# Altium footprint library Monolithic_Power_Systems.PcbLib: 17 footprints (part 1 of 2)
Each footprint in its own frame and in the unit in brackets; x right, y up, seen from the top. Pads: shape width x height; smd on the part's side, far side on the other; paste and mask are expansions set on the pad; w line width, h text height; cw(c..) or ccw(c..) is an arc to the next point about the centre after c.
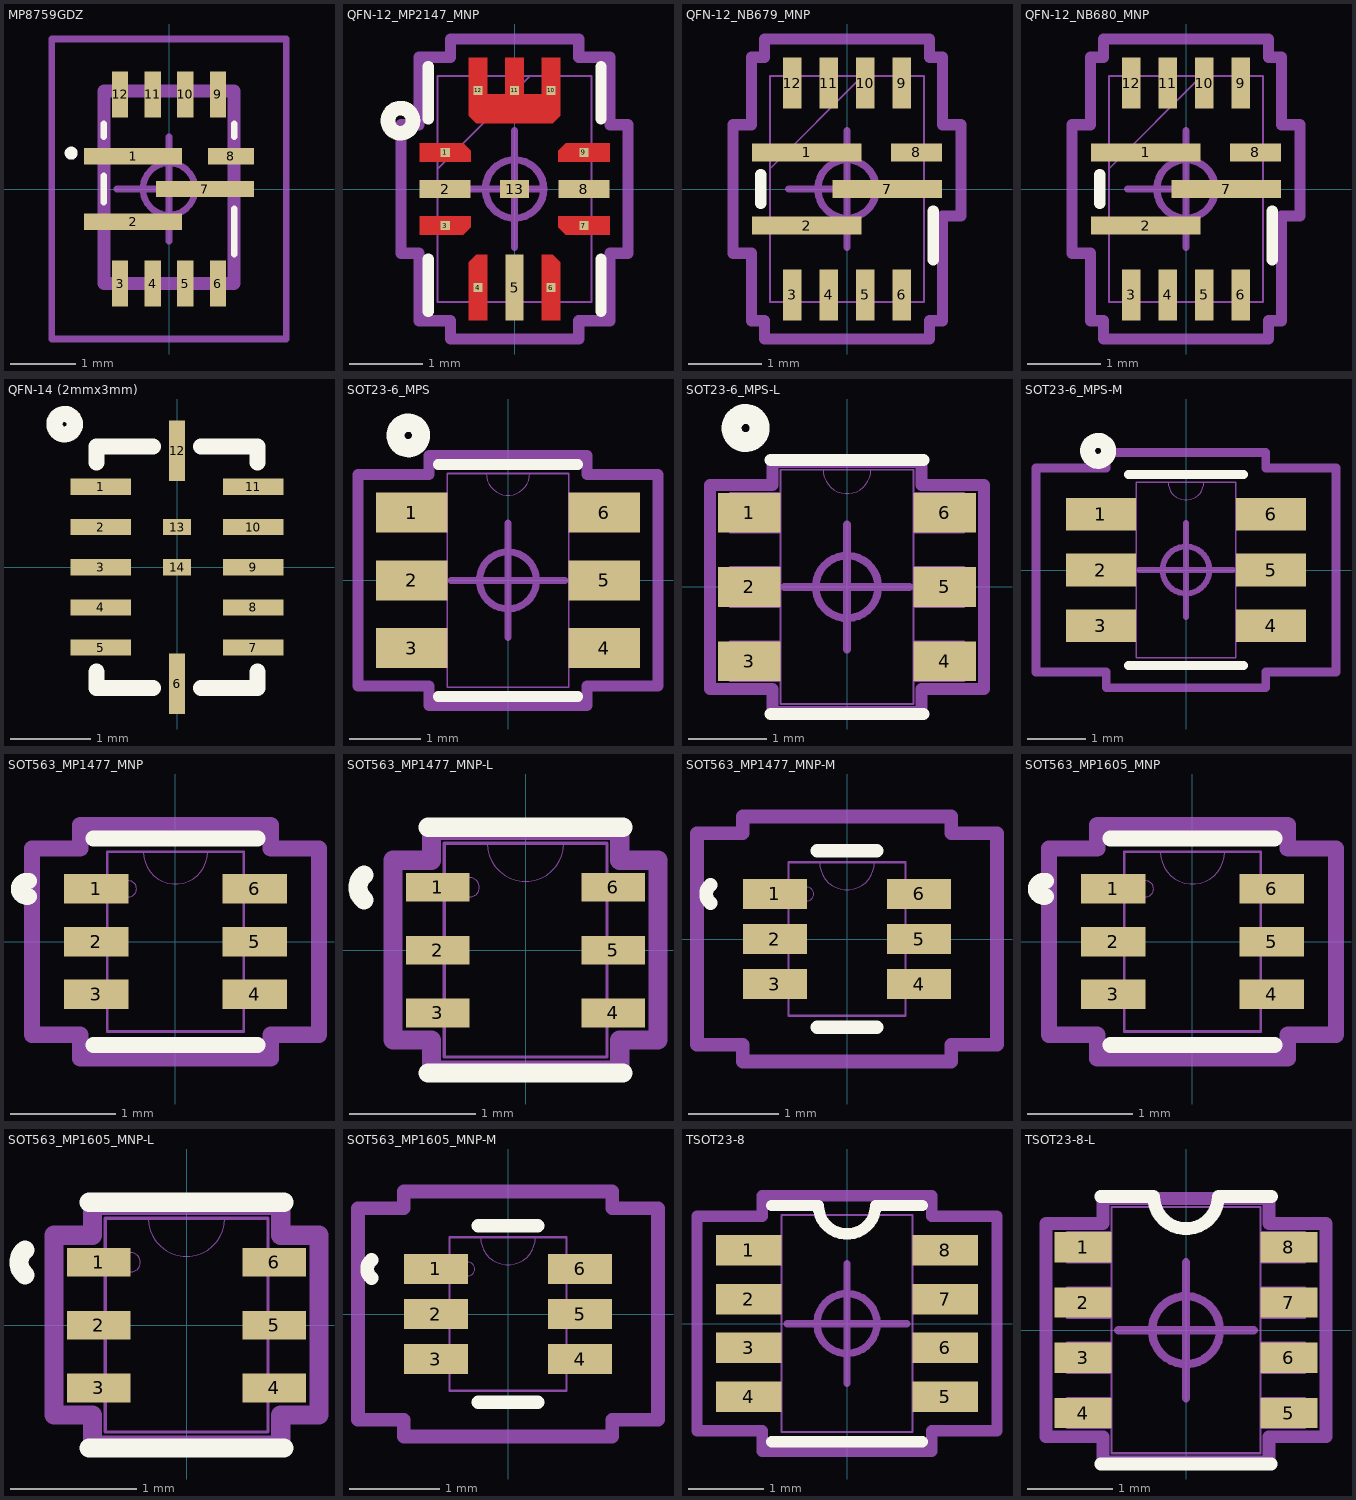
[diagram p0: the footprints below, top view; thin cyan lines are the x and y axes]

## MP8759GDZ [mm]
pads (12):
  rect 1.5x0.25 smd: 1(-0.55,0.5) 2(-0.55,-0.5) 7(0.55,0)
  rect 0.25x0.7 smd: 3(-0.75,-1.45) 4(-0.25,-1.45) 5(0.25,-1.45) 6(0.75,-1.45) 9(0.75,1.45) 10(0.25,1.45) 11(-0.25,1.45) 12(-0.75,1.45)
  rect 0.7x0.25 smd: 8(0.95,0.5)
Top Overlay:
  lines w0.1: -1,-0.2 -1,0.2 ; -1,0.8 -1,1 ; 1,-1 1,-0.3 ; 1,0.8 1,1 ; -1.5,0.5 cw(c-1.5,0.55) -1.5,0.6 cw(c-1.5,0.55) -1.5,0.5
Mechanical 13:
  lines w0.2: -1,-1.45 1,-1.45 1,1.5 -1,1.5 -1,-1.45
Mechanical 15:
  circle w0.1: c0,0 r0.4
  lines w0.1: -0.8,0 -0.4,0 0,0 ; 0,-0.8 0,-0.4 0,0 ; 0,0.8 0,0.4 0,0 ; 0.4,0 0,0 ; -1.8,-2.3 1.8,-2.3 1.8,2.3 -1.8,2.3 -1.8,-2.3
3D body "MP8756 (QFN-12, 2x3).step": height 0.87, standoff -0.03, extent -1,-1.5 1,1.5

## QFN-12_MP2147_MNP [mm]
pads (13):
  rect 0.127x0.127 smd paste-0.064 mask-0.064: 1(-0.95,0.5) 3(-0.95,-0.5) 4(-0.5,-1.35) 6(0.5,-1.35) 7(0.95,-0.5) 9(0.95,0.5) 10(0.5,1.35) 11(0,1.35) 12(-0.5,1.35)
  rect 0.7x0.25 smd paste+0 mask+0: 2(-0.95,0) 8(0.95,0)
  rect 0.25x0.9 smd paste+0 mask+0: 5(0,-1.35)
  rect 0.4x0.25 smd paste+0 mask+0: 13(0,0)
Top Layer:
  region: -0.625,1 -0.625,1.8 -0.375,1.8 -0.375,1.3 -0.125,1.3 -0.125,1.8 0.125,1.8 0.125,1.3 0.375,1.3 0.375,1.8 0.625,1.8 0.625,1 0.525,0.9 -0.525,0.9
  region: 0.7,-0.625 1.3,-0.625 1.3,-0.375 0.6,-0.375 0.6,-0.525
  region: -0.7,0.625 -1.3,0.625 -1.3,0.375 -0.6,0.375 -0.6,0.525
  region: 0.625,-1 0.625,-1.8 0.375,-1.8 0.375,-0.9 0.525,-0.9
  region: -0.625,-1 -0.625,-1.8 -0.375,-1.8 -0.375,-0.9 -0.525,-0.9
  region: -0.7,-0.625 -1.3,-0.625 -1.3,-0.375 -0.6,-0.375 -0.6,-0.525
  region: 0.7,0.625 1.3,0.625 1.3,0.375 0.6,0.375 0.6,0.525
Top Overlay:
  circle w0.2: c-1.562,0.936 r0.172
  lines w0.152: -1.181,-1.676 -1.181,-0.958 ; -1.181,0.958 -1.181,1.676 ; 1.181,-1.676 1.181,-0.958 ; 1.181,0.958 1.181,1.676
Top Paste:
  region: -0.625,-1 -0.625,-1.8 -0.375,-1.8 -0.375,-0.9 -0.525,-0.9
  region: 0.625,-1 0.625,-1.8 0.375,-1.8 0.375,-0.9 0.525,-0.9
  region: 0.7,-0.625 1.3,-0.625 1.3,-0.375 0.6,-0.375 0.6,-0.525
  region: -0.7,-0.625 -1.3,-0.625 -1.3,-0.375 -0.6,-0.375 -0.6,-0.525
  region: -0.7,0.625 -1.3,0.625 -1.3,0.375 -0.6,0.375 -0.6,0.525
  region: 0.7,0.625 1.3,0.625 1.3,0.375 0.6,0.375 0.6,0.525
  region: -0.625,1 -0.625,1.8 -0.375,1.8 -0.375,1.3 -0.125,1.3 -0.125,1.8 0.125,1.8 0.125,1.3 0.375,1.3 0.375,1.8 0.625,1.8 0.625,1 0.525,0.9 -0.525,0.9
Top Solder:
  region: -0.625,-1 -0.625,-1.8 -0.375,-1.8 -0.375,-0.9 -0.525,-0.9
  region: 0.625,-1 0.625,-1.8 0.375,-1.8 0.375,-0.9 0.525,-0.9
  region: 0.7,-0.625 1.3,-0.625 1.3,-0.375 0.6,-0.375 0.6,-0.525
  region: -0.7,-0.625 -1.3,-0.625 -1.3,-0.375 -0.6,-0.375 -0.6,-0.525
  region: -0.7,0.625 -1.3,0.625 -1.3,0.375 -0.6,0.375 -0.6,0.525
  region: 0.7,0.625 1.3,0.625 1.3,0.375 0.6,0.375 0.6,0.525
  region: -0.625,1 -0.625,1.8 -0.375,1.8 -0.375,1.3 -0.125,1.3 -0.125,1.8 0.125,1.8 0.125,1.3 0.375,1.3 0.375,1.8 0.625,1.8 0.625,1 0.525,0.9 -0.525,0.9
Mechanical 13:
  lines w0.025: -1.054,0.279 0.216,1.549 ; -1.054,-1.549 -1.054,1.549 1.054,1.549 1.054,-1.549 -1.054,-1.549
Mechanical 15:
  circle w0.1: c0,0 r0.4
  lines w0.1: -0.8,0 -0.4,0 0,0 ; 0,-0.8 0,-0.4 0,0 ; 0,0.8 0,0.4 0,0 ; 0.4,0 0,0
  lines w0.152: -1.554,-0.879 -1.308,-0.879 -1.308,-1.803 -0.879,-1.803 -0.879,-2.054 0.879,-2.054 0.879,-1.803 1.308,-1.803 1.308,-0.879 1.554,-0.879 1.554,0.879 1.308,0.879 1.308,1.803 0.879,1.803 0.879,2.054 -0.879,2.054 -0.879,1.803 -1.308,1.803 -1.308,0.879 -1.554,0.879 -1.554,-0.879

## QFN-12_NB679_MNP [mm]
pads (12):
  rect 1.5x0.25 smd paste+0 mask+0: 1(-0.55,0.5) 2(-0.55,-0.5) 7(0.55,0)
  rect 0.25x0.7 smd paste+0 mask+0: 3(-0.75,-1.45) 4(-0.25,-1.45) 5(0.25,-1.45) 6(0.75,-1.45) 9(0.75,1.45) 10(0.25,1.45) 11(-0.25,1.45) 12(-0.75,1.45)
  rect 0.7x0.25 smd paste+0 mask+0: 8(0.95,0.5)
Top Overlay:
  lines w0.152: -1.181,-0.197 -1.181,0.197 ; 1.181,-0.969 1.181,-0.303
Mechanical 13:
  lines w0.025: -1.054,0.279 0.216,1.549 ; -1.054,-1.549 1.054,-1.549 1.054,1.549 -1.054,1.549 -1.054,-1.549
Mechanical 15:
  circle w0.1: c0,0 r0.4
  lines w0.1: -0.8,0 -0.4,0 0,0 ; 0,-0.8 0,-0.4 0,0 ; 0,0.8 0,0.4 0,0 ; 0.4,0 0,0
  lines w0.152: -1.562,-0.879 -1.562,0.879 -1.308,0.879 -1.308,1.803 -1.129,1.803 -1.129,2.054 1.129,2.054 1.129,1.803 1.308,1.803 1.308,0.879 1.562,0.879 1.562,-0.371 1.308,-0.371 1.308,-1.803 1.129,-1.803 1.129,-2.054 -1.129,-2.054 -1.129,-1.803 -1.308,-1.803 -1.308,-0.879 -1.562,-0.879
3D body "MP8756 (QFN-12, 2x3).step": height 0.87, standoff -0.03, extent -1,-1.5 1,1.5

## QFN-12_NB680_MNP [mm]
pads (12):
  rect 1.5x0.25 smd paste+0 mask+0: 1(-0.55,0.5) 2(-0.55,-0.5) 7(0.55,0)
  rect 0.25x0.7 smd paste+0 mask+0: 3(-0.75,-1.45) 4(-0.25,-1.45) 5(0.25,-1.45) 6(0.75,-1.45) 9(0.75,1.45) 10(0.25,1.45) 11(-0.25,1.45) 12(-0.75,1.45)
  rect 0.7x0.25 smd paste+0 mask+0: 8(0.95,0.5)
Top Overlay:
  lines w0.152: -1.181,-0.197 -1.181,0.197 ; 1.181,-0.969 1.181,-0.303
Mechanical 13:
  lines w0.025: -1.054,0.279 0.216,1.549 ; -1.054,-1.549 1.054,-1.549 1.054,1.549 -1.054,1.549 -1.054,-1.549
Mechanical 15:
  circle w0.1: c0,0 r0.4
  lines w0.1: -0.8,0 -0.4,0 0,0 ; 0,-0.8 0,-0.4 0,0 ; 0,0.8 0,0.4 0,0 ; 0.4,0 0,0
  lines w0.152: -1.562,-0.879 -1.562,0.879 -1.308,0.879 -1.308,1.803 -1.129,1.803 -1.129,2.054 1.129,2.054 1.129,1.803 1.308,1.803 1.308,0.879 1.562,0.879 1.562,-0.371 1.308,-0.371 1.308,-1.803 1.129,-1.803 1.129,-2.054 -1.129,-2.054 -1.129,-1.803 -1.308,-1.803 -1.308,-0.879 -1.562,-0.879
3D body "MP8756 (QFN-12, 2x3).step": height 0.87, standoff -0.03, extent -1,-1.5 1,1.5

## QFN-14 (2mmx3mm) [mm]
pads (14):
  rect 0.75x0.2 smd: 1(-0.95,1) 2(-0.95,0.5) 3(-0.95,0) 4(-0.95,-0.5) 5(-0.95,-1) 7(0.95,-1) 8(0.95,-0.5) 9(0.95,0) 10(0.95,0.5) 11(0.95,1)
  rect 0.2x0.75 smd: 6(0,-1.45) 12(0,1.45)
  rect 0.35x0.2 smd: 13(0,0.5) 14(0,0)
Top Overlay:
  circle w0.2: c-1.397,1.778 r0.127
  lines w0.2: -1,-1.3 -1,-1.5 -0.3,-1.5 ; -1,1.3 -1,1.5 -0.3,1.5 ; 0.3,-1.5 1,-1.5 1,-1.3 ; 0.3,1.5 1,1.5 1,1.3

## SOT23-6_MPS [mm]
pads (6):
  rect 0.998x0.558 smd: 1(-1.35,0.95) 2(-1.35,0) 3(-1.35,-0.95) 4(1.35,-0.95) 5(1.35,0) 6(1.35,0.95)
Top Overlay:
  circle w0.254: c-1.397,2.032 r0.18
  lines w0.152: -0.978,-1.626 0.978,-1.626 ; -0.978,1.626 0.978,1.626
Mechanical 13:
  lines w0: -0.305,1.499 ccw(c0,1.499) 0.305,1.499
  lines w0.025: -1.499,-1.204 -1.499,-0.696 -0.851,-0.696 -0.851,-1.204 -1.499,-1.204 ; -1.499,-0.254 -1.499,0.254 -0.851,0.254 -0.851,-0.254 -1.499,-0.254 ; -1.499,0.696 -1.499,1.204 -0.851,1.204 -0.851,0.696 -1.499,0.696 ; -0.851,-1.499 0.851,-1.499 0.851,1.499 -0.851,1.499 -0.851,-1.499 ; 0.851,-1.204 0.851,-0.696 1.499,-0.696 1.499,-1.204 0.851,-1.204 ; 0.851,-0.254 0.851,0.254 1.499,0.254 1.499,-0.254 0.851,-0.254 ; 0.851,0.696 0.851,1.204 1.499,1.204 1.499,0.696 0.851,0.696
Mechanical 15:
  circle w0.1: c0,0 r0.4
  lines w0.1: -0.8,0 -0.4,0 0,0 ; 0,-0.8 0,-0.4 0,0 ; 0,0.8 0,0.4 0,0 ; 0.8,0 0.4,0 0,0
  lines w0.152: -2.103,-1.483 -2.103,1.483 -1.105,1.483 -1.105,1.753 1.105,1.753 1.105,1.483 2.103,1.483 2.103,-1.483 1.105,-1.483 1.105,-1.753 -1.105,-1.753 -1.105,-1.483 -2.103,-1.483
3D body "SOT23-6_MPS.step": height 1.45, standoff 0, extent -1.499,-1.499 1.499,1.499

## SOT23-6_MPS-L [mil]
pads (6):
  rect 31.41x20 smd: 1(-49.2,37.4) 2(-49.2,0) 3(-49.2,-37.4) 4(49.2,-37.4) 5(49.2,0) 6(49.2,37.4)
Top Overlay:
  circle w10: c-51.06,80 r7.07
  lines w6: -38.5,-64 38.5,-64 ; -38.5,64 38.5,64
Mechanical 13:
  lines w0: -12,59 ccw(c0,59) 12,59
  lines w1: -59,-47.4 -33.5,-47.4 -33.5,-27.4 -59,-27.4 -59,-47.4 ; -59,-10 -33.5,-10 -33.5,10 -59,10 -59,-10 ; -59,27.4 -33.5,27.4 -33.5,47.4 -59,47.4 -59,27.4 ; -33.5,-59 -33.5,59 33.5,59 33.5,-59 -33.5,-59 ; 33.5,-47.4 59,-47.4 59,-27.4 33.5,-27.4 33.5,-47.4 ; 33.5,-10 59,-10 59,10 33.5,10 33.5,-10 ; 33.5,27.4 59,27.4 59,47.4 33.5,47.4 33.5,27.4
Mechanical 15:
  circle w3.94: c0,0 r15.75
  lines w3.94: -31.5,0 -15.75,0 0,0 ; 0,-31.5 0,-15.75 0,0 ; 0,31.5 0,15.75 0,0 ; 31.5,0 15.75,0 0,0
  lines w6: -68.91,-51.4 -37.5,-51.4 -37.5,-63 37.5,-63 37.5,-51.4 68.91,-51.4 68.91,51.4 37.5,51.4 37.5,63 -37.5,63 -37.5,51.4 -68.91,51.4 -68.91,-51.4
3D body "SOT23-6_MPS.step": height 57.09, standoff 0, extent -59.01,-59 59.02,59.02

## SOT23-6_MPS-M [mm]
pads (6):
  rect 1.198x0.558 smd: 1(-1.45,0.95) 2(-1.45,0) 3(-1.45,-0.95) 4(1.45,-0.95) 5(1.45,0) 6(1.45,0.95)
Top Overlay:
  circle w0.254: c-1.497,2.032 r0.18
  lines w0.152: -0.978,-1.626 0.978,-1.626 ; -0.978,1.626 0.978,1.626
Mechanical 13:
  lines w0: -0.305,1.499 ccw(c0,1.499) 0.305,1.499
  lines w0.025: -1.499,-1.204 -0.851,-1.204 -0.851,-0.696 -1.499,-0.696 -1.499,-1.204 ; -1.499,-0.254 -0.851,-0.254 -0.851,0.254 -1.499,0.254 -1.499,-0.254 ; -1.499,0.696 -0.851,0.696 -0.851,1.204 -1.499,1.204 -1.499,0.696 ; -0.851,-1.499 -0.851,1.499 0.851,1.499 0.851,-1.499 -0.851,-1.499 ; 0.851,-1.204 1.499,-1.204 1.499,-0.696 0.851,-0.696 0.851,-1.204 ; 0.851,-0.254 1.499,-0.254 1.499,0.254 0.851,0.254 0.851,-0.254 ; 0.851,0.696 1.499,0.696 1.499,1.204 0.851,1.204 0.851,0.696
Mechanical 15:
  circle w0.1: c0,0 r0.4
  lines w0.1: -0.8,0 -0.4,0 0,0 ; 0,-0.8 0,-0.4 0,0 ; 0,0.8 0,0.4 0,0 ; 0.8,0 0.4,0 0,0
  lines w0.152: -2.557,-1.737 -1.359,-1.737 -1.359,-2.007 1.359,-2.007 1.359,-1.737 2.557,-1.737 2.557,1.737 1.359,1.737 1.359,2.007 -1.359,2.007 -1.359,1.737 -2.557,1.737 -2.557,-1.737
3D body "SOT23-6_MPS.step": height 1.45, standoff 0, extent -1.499,-1.499 1.499,1.499

## SOT563_MP1477_MNP [mil]
pads (6):
  rect 24x11 smd: 1(-29.5,19.68) 2(-29.5,0) 3(-29.5,-19.68) 4(29.5,-19.68) 5(29.5,0) 6(29.5,19.68)
Top Overlay:
  lines w6: -54.6,16.78 cw(c-55.34,19.68) -54.6,22.59 ; -30.5,-38.5 30.5,-38.5 ; -30.5,38.5 30.5,38.5
Mechanical 13:
  circle w0: c-17.5,19.68 r3
  lines w0: -12,33.5 ccw(c0,33.5) 12,33.5
  lines w1: -25.5,-33.5 -25.5,33.5 25.5,33.5 25.5,-33.5 -25.5,-33.5
Mechanical 15:
  lines w6: -53.5,-34.69 -53.5,34.69 -35.5,34.69 -35.5,43.5 35.5,43.5 35.5,34.69 53.5,34.69 53.5,-34.69 35.5,-34.69 35.5,-43.5 -35.5,-43.5 -35.5,-34.69 -53.5,-34.69
3D body "SOT563_MP1477_MNP.step": height 22.09, standoff 0, extent -33.5,-33.5 33.5,33.5

## SOT563_MP1477_MNP-L [mil]
pads (6):
  rect 20x9 smd: 1(-27.5,19.68) 2(-27.5,0) 3(-27.5,-19.68) 4(27.5,-19.68) 5(27.5,0) 6(27.5,19.68)
Top Overlay:
  lines w6: -50.6,15.76 cw(c-47.5,19.68) -50.6,23.61 ; -30.5,-38.5 30.5,-38.5 ; -30.5,38.5 30.5,38.5
Mechanical 13:
  circle w0: c-17.5,19.68 r3
  lines w0: -12,33.5 ccw(c0,33.5) 12,33.5
  lines w1: -25.5,-33.5 -25.5,33.5 25.5,33.5 25.5,-33.5 -25.5,-33.5
Mechanical 15:
  lines w6: -41.5,-28.18 -41.5,28.18 -29.5,28.18 -29.5,37.5 29.5,37.5 29.5,28.18 41.5,28.18 41.5,-28.18 29.5,-28.18 29.5,-37.5 -29.5,-37.5 -29.5,-28.18 -41.5,-28.18
3D body "SOT563_MP1477_MNP.step": height 22.09, standoff 0, extent -33.5,-33.5 33.5,33.5

## SOT563_MP1477_MNP-M [mil]
pads (6):
  rect 28x13 smd: 1(-31.5,19.68) 2(-31.5,0) 3(-31.5,-19.68) 4(31.5,-19.68) 5(31.5,0) 6(31.5,19.68)
Top Overlay:
  lines w6: -59.6,15.76 cw(c-56.5,19.68) -59.6,23.61 ; -13.03,-38.5 13.03,-38.5 ; -13.03,38.5 13.03,38.5
Mechanical 13:
  circle w0: c-17.5,19.68 r3
  lines w0: -12,33.5 ccw(c0,33.5) 12,33.5
  lines w1: -25.5,-33.5 -25.5,33.5 25.5,33.5 25.5,-33.5 -25.5,-33.5
Mechanical 15:
  lines w6: -65.5,-46.19 -65.5,46.19 -45.5,46.19 -45.5,53.5 45.5,53.5 45.5,46.19 65.5,46.19 65.5,-46.19 45.5,-46.19 45.5,-53.5 -45.5,-53.5 -45.5,-46.19 -65.5,-46.19
3D body "SOT563_MP1477_MNP.step": height 22.09, standoff 0, extent -33.5,-33.5 33.5,33.5

## SOT563_MP1605_MNP [mil]
pads (6):
  rect 24x11 smd: 1(-29.5,19.68) 2(-29.5,0) 3(-29.5,-19.68) 4(29.5,-19.68) 5(29.5,0) 6(29.5,19.68)
Top Overlay:
  lines w6: -54.6,16.78 cw(c-55.34,19.68) -54.6,22.59 ; -30.5,-38.5 30.5,-38.5 ; -30.5,38.5 30.5,38.5
Mechanical 13:
  circle w0: c-17.5,19.68 r3
  lines w0: -12,33.5 ccw(c0,33.5) 12,33.5
  lines w1: -25.5,-33.5 -25.5,33.5 25.5,33.5 25.5,-33.5 -25.5,-33.5
Mechanical 15:
  lines w6: -53.5,-34.69 -53.5,34.69 -35.5,34.69 -35.5,43.5 35.5,43.5 35.5,34.69 53.5,34.69 53.5,-34.69 35.5,-34.69 35.5,-43.5 -35.5,-43.5 -35.5,-34.69 -53.5,-34.69
3D body "SOT563_MP1477_MNP.step": height 22.09, standoff 0, extent -33.5,-33.5 33.5,33.5

## SOT563_MP1605_MNP-L [mil]
pads (6):
  rect 20x9 smd: 1(-27.5,19.68) 2(-27.5,0) 3(-27.5,-19.68) 4(27.5,-19.68) 5(27.5,0) 6(27.5,19.68)
Top Overlay:
  lines w6: -50.6,15.76 cw(c-47.5,19.68) -50.6,23.61 ; -30.5,-38.5 30.5,-38.5 ; -30.5,38.5 30.5,38.5
Mechanical 13:
  circle w0: c-17.5,19.68 r3
  lines w0: -12,33.5 ccw(c0,33.5) 12,33.5
  lines w1: -25.5,-33.5 25.5,-33.5 25.5,33.5 -25.5,33.5 -25.5,-33.5
Mechanical 15:
  lines w6: -41.5,-28.18 -29.5,-28.18 -29.5,-37.5 29.5,-37.5 29.5,-28.18 41.5,-28.18 41.5,28.18 29.5,28.18 29.5,37.5 -29.5,37.5 -29.5,28.18 -41.5,28.18 -41.5,-28.18
3D body "SOT563_MP1477_MNP.step": height 22.09, standoff 0, extent -33.5,-33.5 33.5,33.5

## SOT563_MP1605_MNP-M [mil]
pads (6):
  rect 28x13 smd: 1(-31.5,19.68) 2(-31.5,0) 3(-31.5,-19.68) 4(31.5,-19.68) 5(31.5,0) 6(31.5,19.68)
Top Overlay:
  lines w6: -59.6,15.76 cw(c-56.5,19.68) -59.6,23.61 ; -13.03,-38.5 13.03,-38.5 ; -13.03,38.5 13.03,38.5
Mechanical 13:
  circle w0: c-17.5,19.68 r3
  lines w0: -12,33.5 ccw(c0,33.5) 12,33.5
  lines w1: -25.5,-33.5 25.5,-33.5 25.5,33.5 -25.5,33.5 -25.5,-33.5
Mechanical 15:
  lines w6: -65.5,-46.19 -45.5,-46.19 -45.5,-53.5 45.5,-53.5 45.5,-46.19 65.5,-46.19 65.5,46.19 45.5,46.19 45.5,53.5 -45.5,53.5 -45.5,46.19 -65.5,46.19 -65.5,-46.19
3D body "SOT563_MP1477_MNP.step": height 22.09, standoff 0, extent -33.5,-33.5 33.5,33.5

## TSOT23-8 [mm]
pads (8):
  rect 0.871x0.406 smd: 1(-1.312,0.975) 2(-1.312,0.325) 3(-1.312,-0.325) 4(-1.312,-0.975) 5(1.312,-0.975) 6(1.312,-0.325) 7(1.312,0.325) 8(1.312,0.975)
Top Overlay:
  lines w0.152: -1.003,-1.575 1.003,-1.575 ; -1.003,1.575 -0.38,1.575 ; -0.381,1.575 ccw(c0,1.575) 0.381,1.575 1.004,1.575
Mechanical 13:
  lines w0: -0.305,1.448 ccw(c0,1.448) 0.305,1.448
  lines w0.025: -1.397,-1.153 -1.397,-0.797 -0.876,-0.797 -0.876,-1.153 -1.397,-1.153 ; -1.397,-0.503 -1.397,-0.147 -0.876,-0.147 -0.876,-0.503 -1.397,-0.503 ; -1.397,0.147 -1.397,0.503 -0.876,0.503 -0.876,0.147 -1.397,0.147 ; -1.397,0.797 -1.397,1.153 -0.876,1.153 -0.876,0.797 -1.397,0.797 ; -0.876,-1.448 0.876,-1.448 0.876,1.448 -0.876,1.448 -0.876,-1.448 ; 0.876,-1.153 0.876,-0.797 1.397,-0.797 1.397,-1.153 0.876,-1.153 ; 0.876,-0.503 0.876,-0.147 1.397,-0.147 1.397,-0.503 0.876,-0.503 ; 0.876,0.147 0.876,0.503 1.397,0.503 1.397,0.147 0.876,0.147 ; 0.876,0.797 0.876,1.153 1.397,1.153 1.397,0.797 0.876,0.797
Mechanical 15:
  circle w0.1: c0,0 r0.4
  lines w0.1: -0.8,0 -0.4,0 0,0 ; 0,-0.8 0,-0.4 0,0 ; 0,0.8 0,0.4 0,0 ; 0.8,0 0.4,0 0,0
  lines w0.152: -2.001,-1.432 -2.001,1.432 -1.13,1.432 -1.13,1.702 1.13,1.702 1.13,1.432 2.001,1.432 2.001,-1.432 1.13,-1.432 1.13,-1.702 -1.13,-1.702 -1.13,-1.432 -2.001,-1.432
3D body "TSOT-23_TS8_LIT.step": height 0.99, standoff 0, extent -1.397,-1.448 1.397,1.448

## TSOT23-8-L [mm]
pads (8):
  rect 0.671x0.356 smd: 1(-1.212,0.975) 2(-1.212,0.325) 3(-1.212,-0.325) 4(-1.212,-0.975) 5(1.212,-0.975) 6(1.212,-0.325) 7(1.212,0.325) 8(1.212,0.975)
Top Overlay:
  lines w0.152: -1.003,-1.575 1.003,-1.575 ; -1.003,1.575 -0.38,1.575 ; -0.381,1.575 ccw(c0,1.575) 0.381,1.575 1.004,1.575
Mechanical 13:
  lines w0: -0.305,1.448 ccw(c0,1.448) 0.305,1.448
  lines w0.025: -1.397,-1.153 -1.397,-0.797 -0.876,-0.797 -0.876,-1.153 -1.397,-1.153 ; -1.397,-0.503 -1.397,-0.147 -0.876,-0.147 -0.876,-0.503 -1.397,-0.503 ; -1.397,0.147 -1.397,0.503 -0.876,0.503 -0.876,0.147 -1.397,0.147 ; -1.397,0.797 -1.397,1.153 -0.876,1.153 -0.876,0.797 -1.397,0.797 ; -0.876,-1.448 0.876,-1.448 0.876,1.448 -0.876,1.448 -0.876,-1.448 ; 0.876,-1.153 0.876,-0.797 1.397,-0.797 1.397,-1.153 0.876,-1.153 ; 0.876,-0.503 0.876,-0.147 1.397,-0.147 1.397,-0.503 0.876,-0.503 ; 0.876,0.147 0.876,0.503 1.397,0.503 1.397,0.147 0.876,0.147 ; 0.876,0.797 0.876,1.153 1.397,1.153 1.397,0.797 0.876,0.797
Mechanical 15:
  circle w0.1: c0,0 r0.4
  lines w0.1: -0.8,0 -0.4,0 0,0 ; 0,-0.8 0,-0.4 0,0 ; 0,0.8 0,0.4 0,0 ; 0.8,0 0.4,0 0,0
  lines w0.152: -1.649,-1.254 -1.649,1.254 -0.978,1.254 -0.978,1.549 0.978,1.549 0.978,1.254 1.649,1.254 1.649,-1.254 0.978,-1.254 0.978,-1.549 -0.978,-1.549 -0.978,-1.254 -1.649,-1.254
3D body: height 0.25, standoff 0, extent 0,0 0.254,0.254
3D body "TSOT-23_TS8_LIT.step": height 0.99, standoff 0, extent -1.397,-1.448 1.397,1.448